# Altium footprint library B3U-3000P(M)-B.PcbLib: 1 footprints
Each footprint in its own frame and in the unit in brackets; x right, y up, seen from the top. Pads: shape width x height; smd on the part's side, far side on the other; paste and mask are expansions set on the pad; w line width, h text height; cw(c..) or ccw(c..) is an arc to the next point about the centre after c.
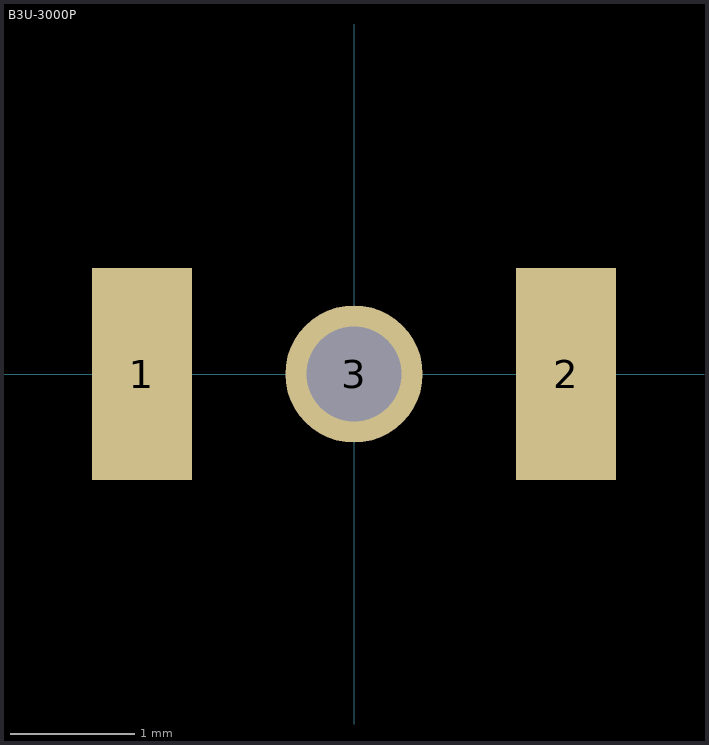
[diagram p0: the footprint, top view; thin cyan lines are the x and y axes]

## B3U-3000P [mm] "Without Ground Terminal, with Boss"
pads (3):
  rect 0.8x1.7 smd: 1(-1.7,0) 2(1.7,0)
  round 1.1 hole 0.76: 3(0,0)
3D body "b3u-3000p.stp": height 1.2, standoff 0, extent -2,-1.95 2,1.25